# EAGLE library part DMG6602 (library formula electric)
N and P Channel Mosfet
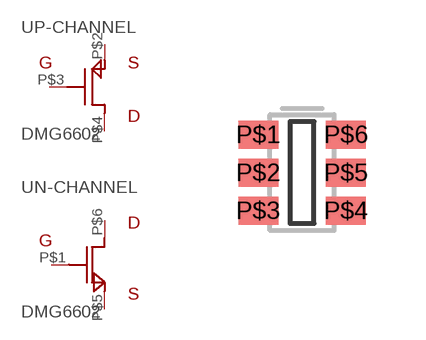
[diagram p12: symbol with the pads of SOT23-6; footprint SOT23-6]

Designator prefix -; gates N-CHANNEL=P_CHANNEL_MOSFET P-CHANNEL=N_CHANNEL_MOSFET

## DMG6602  [SOT23-6]
P$1  N-CHANNEL:G$1
P$2  P-CHANNEL:S$1
P$3  P-CHANNEL:G$1
P$4  P-CHANNEL:D$1
P$5  N-CHANNEL:S$1
P$6  N-CHANNEL:D$1

## Footprint SOT23-6 (pad centres in mm)
smd 1 x 0.7: P$1 -1.099,0.95; P$2 -1.099,0; P$3 -1.099,-0.95; P$4 1.099,-0.95; P$5 1.099,0; P$6 1.099,0.95